# EAGLE library part 750811648 (library WE-OLRM)
WE-OLRM RM-Style Offline Flyback Transformers Characteristics Reinforced insulation Extended rail Vertical core direction Universal input Compact Grounded core for improved EMI performance Applications White goods Offline flyback applications Industrial controls LED lighting Smart adapters Metering <https://www.we-online.com/catalog/media/o93418v209%20Family_OLRM.jpg> Details see: www.we-online.com/en/components/products/WE-OLRM Created by Ella Wu 2023-04-11 2023 (C) Wurth Elektronik
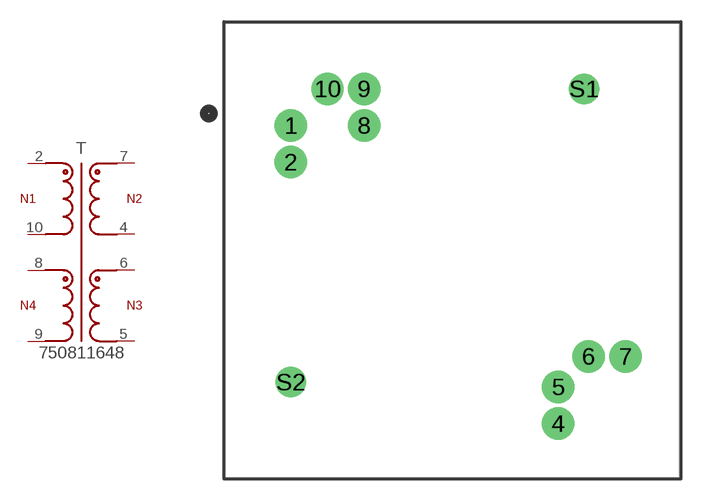
[diagram p0: symbol with the pads of WE-OLRM_RM10; footprint WE-OLRM_RM10]

Designator prefix T

## 750811648 (DATASHEET-URL: https://www.we-online.com/redexpert/spec/750811648?ae; F-SWTICH: 100kHz; HEIGHT: 20.5mm; IOUT1: 0.4A; IOUT2: 0.4A; ISAT1: 3.75A; L1: 600µH; LENGTH: 31.5mm; MOUNT: THT; N: 4.5 : 1 : 1 : 1; PART-NUMBER: 750811648; VALUE: 750811648; VAUX: 24V; VIN: 85 - 265 V (AC); VOUT1: 24V; VOUT2: 24V; VT: 3900V (AC); WIDTH: 31.5mm)  [WE-OLRM_RM10]
2  2  pas
4  4  pas
5  5  pas
6  6  pas
7  7  pas
8  8  pas
9  9  pas
10  10  pas

## Footprint WE-OLRM_RM10 (pad centres in mm)
WE-OLRM RM-Style Offline Flyback Transformers Size: RM10,THT,10pins LXWXH=31.5X31.5X20.5mm
drill 1.5: 1 -10.16,7.62; 2 -10.16,5.08; 4 8.38,-13.03; 5 8.38,-10.49; 6 10.49,-8.38; 7 13.03,-8.38; 8 -5.08,7.62; 9 -5.08,10.16; 10 -7.62,10.16
drill 1.4: S1 10.16,10.16; S2 -10.16,-10.16